# EAGLE library part MICRO-USB-TYPE-B (library yb-library)
Micro-USB Connector Type-B, 5-pin (Aliexpress.com)
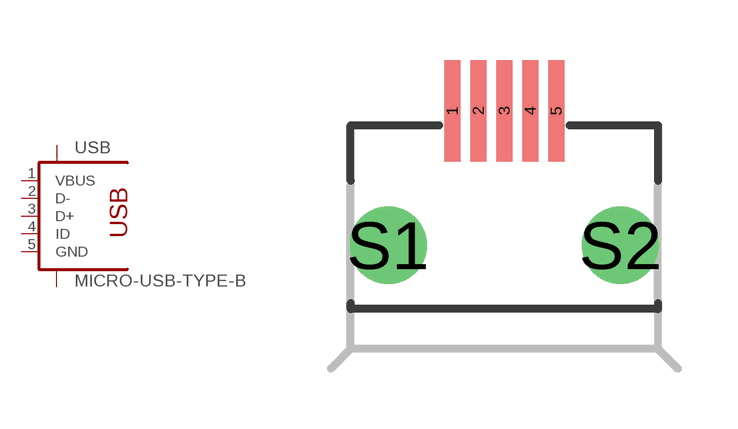
[diagram p15: symbol with the pads of MICRO-USB-TYPE-B-5-PIN; footprint MICRO-USB-TYPE-B-5-PIN]

Designator prefix USB

## MICRO-USB-TYPE-B  [MICRO-USB-TYPE-B-5-PIN]
1  VBUS  pas
2  D-  pas
3  D+  pas
4  ID  pas
5  GND  pas
S1  CASE1  pas
S2  CASE2  pas

## Footprint MICRO-USB-TYPE-B-5-PIN (pad centres in mm)
Micro-USB Type-B, 5-pin (Aliexpress.com)
smd 0.4 x 2.54: 1 -1.3,3.365; 2 -0.65,3.365; 3 0,3.365; 4 0.65,3.365; 5 1.3,3.365
drill 1 pad 1.93: S1 -2.905,0; S2 2.905,0